# Altium footprint library Diode.PcbLib: 29 footprints (part 1 of 2)
Each footprint in its own frame and in the unit in brackets; x right, y up, seen from the top. Pads: shape width x height; smd on the part's side, far side on the other; paste and mask are expansions set on the pad; w line width, h text height; cw(c..) or ccw(c..) is an arc to the next point about the centre after c.
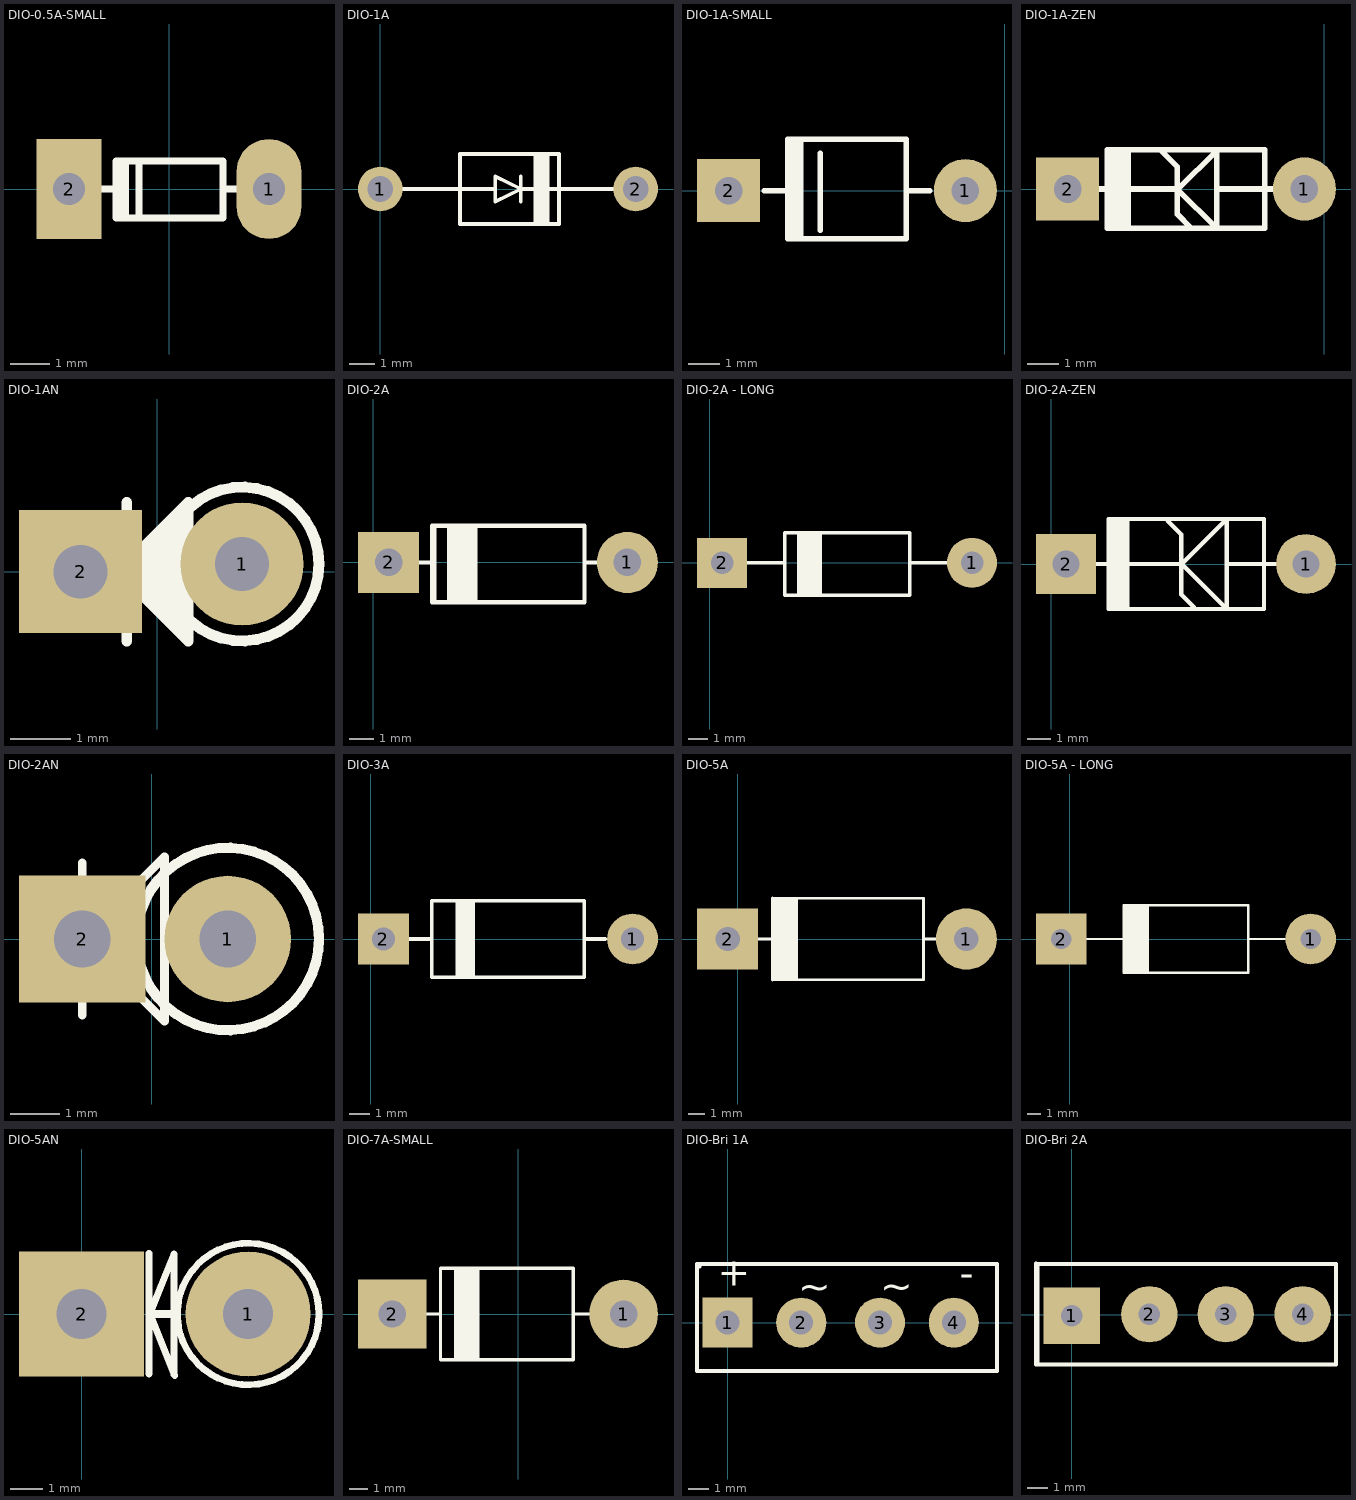
[diagram p0: the footprints below, top view; thin cyan lines are the x and y axes]

## DIO-0.5A-SMALL [mil] "Diode muoi, W 80mil, L 300mil"
height 80
pads (2):
  oval 65x100 hole 32: 1(100,0)
  rect 65x100 hole 32: 2(-100,0)
Top Overlay:
  rectangle: -55,-30 -40,25
  lines w7: -80,0 -53,0 ; -30,-29 -30,28 ; 54,0 80,0 ; -53,-29 -53,28 54,28 54,-29 -53,-29
3D body "SW3dPS-1N4148.STEP": height 61.22, standoff -50, extent -108.5,-32.96 108.5,32

## DIO-1A [mil]
pads (2):
  round 70 hole 40: 1(0,0) 2(400,0)
Top Overlay:
  rectangle: 240,-55 265,55
  lines w6: 60,0 125,0 ; 180,0 125,0 ; 220,-20 220,20 ; 125,0 125,-55 280,-55 280,0 ; 125,0 125,55 280,55 280,40 280,0 ; 220,0 280,0 ; 220,0 180,-20 180,20 220,0 ; 280,0 335,0 ; 335,0 365,0 335,0 ; 35,0 65,0 35,0
3D body "User Library-Silicone Diode 3_9x2_6.step": height 102.17, standoff -59.45, extent -11.02,-50 411.02,54.33

## DIO-1A-SMALL [mil] "Diode 1A, W 100mil, L 350mil"
height 100
pads (2):
  round 80 hole 35: 1(-50,0)
  rect 80x80 hole 35: 2(-350,0)
Top Overlay:
  rectangle: -275,-60.98 -255,65
  lines w7: -305,0 -275,0 ; -275,-16 -275,0 ; -275,21 -275,0 ; -234,-50 -234,47 ; -125,0 -95,0 ; -275,0 -275,65 -125,65 -125,-60.98 -275,-60.98 -275,0
3D body "User Library-DO-15-1.step": height 122.05, standoff -137.8, extent -365.75,-60.98 -34.25,65

## DIO-1A-ZEN [mil] "Diode 1A, W 100mil, L 350mil"
height 100
pads (2):
  round 80 hole 35: 1(-25,0)
  rect 80x80 hole 35: 2(-325,0)
Top Overlay:
  region: -275,50 -275,-50 -245,-50 -245,50
  lines w7: -305,0 -275,0 ; -275,-16 -275,0 ; -275,21 -275,0 ; -255,0 -190,0 ; -208,50 -186,28 -186,-32 -168.5,-49.5 ; -185.5,-0.5 -136,-50 -136,50 -136,49 -185,0 -185,-1 ; -135,0 -75,0 -45,0 ; -275,0 -275,-50 -75,-50 -75,50 -275,50 -275,0
3D body "SW3dPS-Zener 1W.STEP": height 120.61, standoff -50, extent -345.5,-55 -14.5,50

## DIO-1AN [mil] "Diode 1A, W 100mil, L 150mil"
height 100
pads (2):
  round 80 hole 35: 1(55,5)
  rect 80x80 hole 35: 2(-50,0)
Top Overlay:
  circle w7: c55,5 r50
  region: 20,40 20,-40 15,-40 -20,-5 -20,5
  lines w7: -30,0 -20,0 ; -20,-45 -20,45 ; -20,-5 -20,5 20,45 20,-45 -20,-5
3D body "SW3dPS-1N4007_Stand.STEP": height 252.32, standoff -78.14, extent -64,-50 104,55

## DIO-2A [mil] "Diode 2A, W 150mil, L 450mil"
height 100
pads (2):
  round 100 hole 45: 1(415,0)
  rect 100x100 hole 45: 2(25,0)
Top Overlay:
  rectangle: 120,-65 170,60
  lines w7: 61,0 96,0 ; 96,-31 96,0 ; 96,32 96,0 ; 100,-65 100,60 ; 345,0 391,0 ; 96,-65 96,60 345,60 345,-65 96,-65
3D body "User Library-DO-15-1 (1).step": height 112.99, standoff -146.85, extent 4.25,-65 435.75,60.98

## DIO-2A - LONG [mil] "Diode 2A, W 150mil, L 450mil"
height 100
pads (2):
  round 100 hole 45: 1(525,0)
  rect 100x100 hole 45: 2(25,0)
Top Overlay:
  rectangle: 175,-65 225,60
  lines w7: 61,0 150,0 ; 400,0 476,0 ; 150,-65 150,60 400,60 400,-65 150,-65
3D body "User Library-DO-15-1 (2).step": height 112.99, standoff -146.85, extent 9.25,-60.98 540.75,65

## DIO-2A-ZEN [mil]
height 100
pads (2):
  round 100 hole 45: 1(425,0)
  rect 100x100 hole 45: 2(25,0)
Top Overlay:
  region: 95,75 95,-75 130,-75 130,75
  lines w7: 61,0 96,0 ; 96,-31 96,0 ; 96,32 96,0 ; 115,0 215,0 ; 194,72 217,49 217,-51 239,-73 ; 218,1 218,0 ; 295,0 360,0 ; 355,0 391,0 ; 218,0 293,75 293,-75 218,0 ; 96,-75 96,75 355,75 355,-75 96,-75
3D body "SW3DPS-DIODE0_4-DEFAULT.STEP": height 100.5, standoff -100, extent 10,-50.5 440,50.5

## DIO-2AN [mil] "Diode 2A, W 150mil, L 450mil"
height 100
pads (2):
  round 100 hole 45: 1(60,0)
  rect 100x100 hole 45: 2(-55,0)
Top Overlay:
  circle w8: c60,0 r72.11
  lines w7: -55,-60 -55,60 ; 10,50 10,65 -55,0 10,-65 10,55
3D body "SW3dPS-Zener 1W_Stand.STEP": height 252.32, standoff -78.14, extent -68.99,-49.99 99.01,55

## DIO-3A [mil] "Diode 3A"
height 100
pads (2):
  round 100 hole 45: 1(515,0)
  rect 100x100 hole 45: 2(25,0)
Top Overlay:
  rectangle: 170,-75 205,75
  lines w7: 76,0 120,0 ; 170,-75 170,75 ; 425,0 461,0 ; 120,-75 420,-75 420,75 120,75 120,-75
3D body "User Library-DO15A_12_6.step": height 141.73, standoff -7.87, extent 4.25,-71.73 535.75,70

## DIO-5A [mil] "Diode 5A, W 200mil, L 550mil"
height 150
pads (2):
  round 150 hole 60: 1(560,0)
  rect 150x150 hole 60: 2(-25,0)
Top Overlay:
  rectangle: 85,-100 148,100
  lines w7: 50,0 118,0 ; 85,-100 455,-100 455,100 85,100 ; 455,0 490,0
  lines w7.87: 85,-100 85,100
3D body "SW3dPS-BYW98.STEP": height 210.63, standoff -129.92, extent -51.87,-106 589.87,102.66

## DIO-5A - LONG [mil] "Diode 5A, W 200mil, L 550mil"
height 150
pads (2):
  round 150 hole 60: 1(715,0)
  rect 150x150 hole 60: 2(-25,0)
Top Overlay:
  rectangle: 160,-100 235,100
  lines w7: 35,0 160,0 ; 169,-99 169,100 ; 530,0 638,0 ; 160,-100 530,-100 530,100 160,100 160,-100
3D body "User Library-Diodo 1N5406 (Pitch 18_84mm).step": height 210.63, standoff -287.4, extent -51.85,-105 741.85,103.66

## DIO-5AN [mil] "Diode 5A, W 200mil, L 250mil"
height 150
pads (2):
  round 150 hole 60: 1(200,0)
  rect 150x150 hole 60: 2(0,0)
Top Overlay:
  circle w8: c200,0 r85
  lines w8: 81,-72 81,73 ; 82,0 111,72 111,-73 ; 83,-2 112,-74
  lines w10: 82,0 113,0
3D body "User Library-1N540X.STEP": height 450.79, standoff -157.48, extent -32.07,-111.18 222.07,90

## DIO-7A-SMALL [mil] "Diode 7A"
height 150
pads (2):
  round 150 hole 60: 1(230,0)
  rect 150x150 hole 60: 2(-275,0)
Top Overlay:
  rectangle: -140,-100 -85,100
  lines w7: -250,0 -212,0 ; -212,-44 -212,0 ; -212,46 -212,0 ; -205,0 -170,0 ; 120,0 155,0 ; -170,-100 120,-100 120,100 -170,100 -170,-100
3D body "User Library-P600.step": height 318.9, standoff -157.48, extent -296.26,-161.42 250.98,161.42

## DIO-Bri 1A [mm]
pads (4):
  rect 2.5x2.5 / inner round 1.575 / far side rect 2.5x2.5 hole 1.2: 1(0,0)
  round 2.5 hole 1.2: 2(3.683,0) 3(7.62,0) 4(11.303,0)
Top Overlay:
  lines w0.2: -1.524,2.413 -1.524,2.921 13.462,2.921 13.462,-2.413 -1.524,-2.413 -1.524,2.794 -1.397,2.794
  text "~" at 3.531,1.118 h1.43
  text "~" at 7.62,1.13 h1.43
  text "+" at -0.483,1.841 h1.43
  text "-" at 11.608,1.778 h1.43
3D body "User Library-KBP.step": height 0.5, standoff -15.19, extent -1.651,-2.412 13.079,2.413

## DIO-Bri 2A [mil] "CAU 2A DET"
height 800
pads (4):
  rect 110x110 hole 42: 1(0,-2)
  round 110 hole 42: 2(151,1) 3(300,1) 4(450,1)
Top Overlay:
  lines w7: -67,-95 -67,99 ; -70,-97 515,-97 515,99 -69,99 -70,100 -70,-97
3D body "SW3dPS-KBPM.STEP": height 649.61, standoff -303.15, extent -61.99,-95 511.99,102.24